# EAGLE library part ICS501 (library TinyNES_Library)
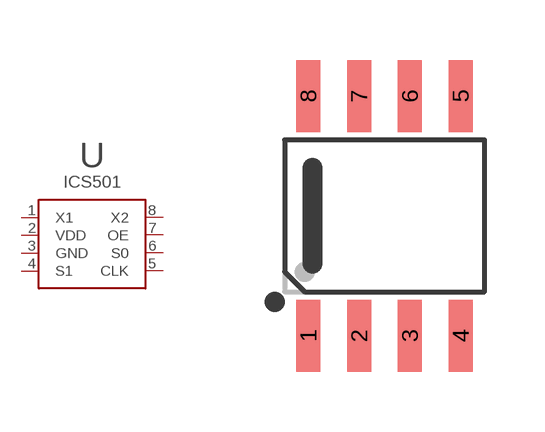
[diagram p10: symbol with the pads of SOIC-8; footprint SOIC-8]

Designator prefix U

## ICS501  [SOIC-8]
1  X1
2  VDD
3  GND
4  S1
5  CLK
6  S0
7  OE
8  X2

## Footprint SOIC-8 (pad centres in mm)
smd 0.6 x 1.8: 1 -1.905,-3; 2 -0.635,-3; 3 0.635,-3; 4 1.905,-3; 5 1.905,3; 6 0.635,3; 7 -0.635,3; 8 -1.905,3